# EAGLE library part MTX2-143+ (library My_Library_RADAR)
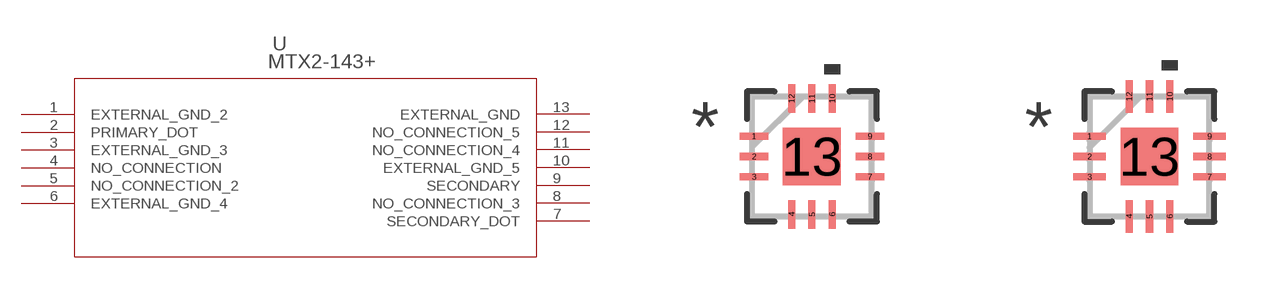
[diagram p5: symbol with the pads of DQ1225_MNC; footprints DQ1225_MNC, DQ1225_MNC-M]

Designator prefix U

## MTX2-143+ (COPYRIGHT: Copyright (C) 2024 Ultra Librarian. All rights reserved.; MANUFACTURER_PART_NUMBER: MTX2-143+; MFR_NAME: Mini Circuits)  [DQ1225_MNC]
1  EXTERNAL_GND_2  pas
2  PRIMARY_DOT  pas
3  EXTERNAL_GND_3  pas
4  NO_CONNECTION  nc
5  NO_CONNECTION_2  nc
6  EXTERNAL_GND_4  pas
7  SECONDARY_DOT  pas
8  NO_CONNECTION_3  nc
9  SECONDARY  pas
10  EXTERNAL_GND_5  pas
11  NO_CONNECTION_4  nc
12  NO_CONNECTION_5  nc
13  EXTERNAL_GND  pas

## MTX2-143+DQ1225_MNC-M (COPYRIGHT: Copyright (C) 2024 Ultra Librarian. All rights reserved.; MANUFACTURER_PART_NUMBER: MTX2-143+; MFR_NAME: Mini Circuits)  [DQ1225_MNC-M]
Pads as for DQ1225_MNC

## MTX2-143+DQ1225_MNC-L (COPYRIGHT: Copyright (C) 2024 Ultra Librarian. All rights reserved.; MANUFACTURER_PART_NUMBER: MTX2-143+; MFR_NAME: Mini Circuits)  [DQ1225_MNC-L]
Pads as for DQ1225_MNC

## Footprint DQ1225_MNC (pad centres in mm)
smd 0.711 x 0.178: 1 -1.448,0.508; 2 -1.448,0; 3 -1.448,-0.508; 7 1.448,-0.508; 8 1.448,0; 9 1.448,0.508
smd 0.178 x 0.711: 4 -0.508,-1.448; 5 0,-1.448; 6 0.508,-1.448; 10 0.508,1.448; 11 0,1.448; 12 -0.508,1.448
smd 1.448 x 1.448: 13 0,0

## Footprint DQ1225_MNC-M (pad centres in mm)
smd 0.813 x 0.178: 1 -1.499,0.508; 2 -1.499,0; 3 -1.499,-0.508; 7 1.499,-0.508; 8 1.499,0; 9 1.499,0.508
smd 0.178 x 0.813: 4 -0.508,-1.499; 5 0,-1.499; 6 0.508,-1.499; 10 0.508,1.499; 11 0,1.499; 12 -0.508,1.499
smd 1.448 x 1.448: 13 0,0

## Footprint DQ1225_MNC-L (pad centres in mm)
smd 0.61 x 0.178: 1 -1.397,0.508; 2 -1.397,0; 3 -1.397,-0.508; 7 1.397,-0.508; 8 1.397,0; 9 1.397,0.508
smd 0.178 x 0.61: 4 -0.508,-1.397; 5 0,-1.397; 6 0.508,-1.397; 10 0.508,1.397; 11 0,1.397; 12 -0.508,1.397
smd 1.448 x 1.448: 13 0,0